# EAGLE library part IRF7705 (library transistor-fet)
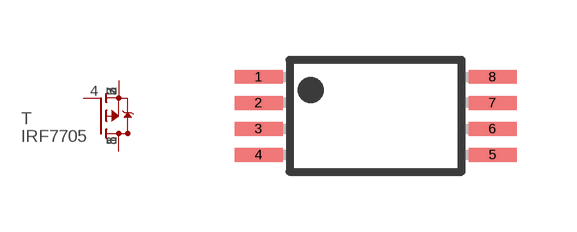
[diagram p0: symbol with the pads of TSSOP8; footprint TSSOP8]

Designator prefix T

## IRF7705  [TSSOP8]
1  D  pas
2  S  pas
3  S  pas
4  G  pas
5  D  pas
6  S  pas
7  S  pas
8  D  pas

## Footprint TSSOP8 (pad centres in mm)
Plastic Small Outline
smd 1.2 x 0.35: 1 -2.925,0.975; 2 -2.925,0.325; 3 -2.925,-0.325; 4 -2.925,-0.975; 5 2.925,-0.975; 6 2.925,-0.325; 7 2.925,0.325; 8 2.925,0.975